# Altium schematic symbol library HDR_1X6_BB_6.SchLib: 1 symbol
Pins are listed as number, name and electrical type; pins without a type are passive.

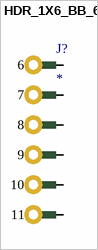
[diagram p0: symbol HDR_1X6_BB_6]

## HDR_1X6_BB_6
designator J?
pins: 6, 7, 8, 9, 10, 11